# Altium footprint library MRT.PcbLib: 1 footprints
Each footprint in its own frame and in the unit in brackets; x right, y up, seen from the top. Pads: shape width x height; smd on the part's side, far side on the other; paste and mask are expansions set on the pad; w line width, h text height; cw(c..) or ccw(c..) is an arc to the next point about the centre after c.
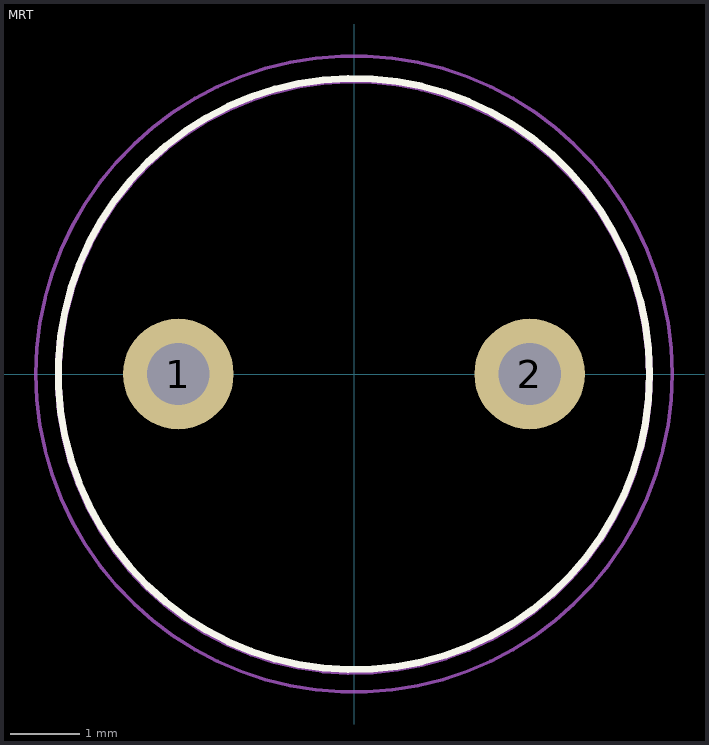
[diagram p0: the footprint, top view; thin cyan lines are the x and y axes]

## MRT [mm]
pads (2):
  round 1.6 hole 0.9 mask+0.05: 1(-2.54,0) 2(2.54,0)
Top Overlay:
  circle w0.1: c0,0 r4.275
Top Assembly:
  circle w0.1: c0,-0.025 r4.275
Top Courtyard:
  circle w0.05: c0,0 r4.6
3D body "User Library-260001.step": height 8.05, standoff -3.02, extent -4.22,-4.225 4.23,4.225